# Altium schematic symbol library Schlib1.SchLib: 17 symbols
Pins are listed as number, name and electrical type; pins without a type are passive.

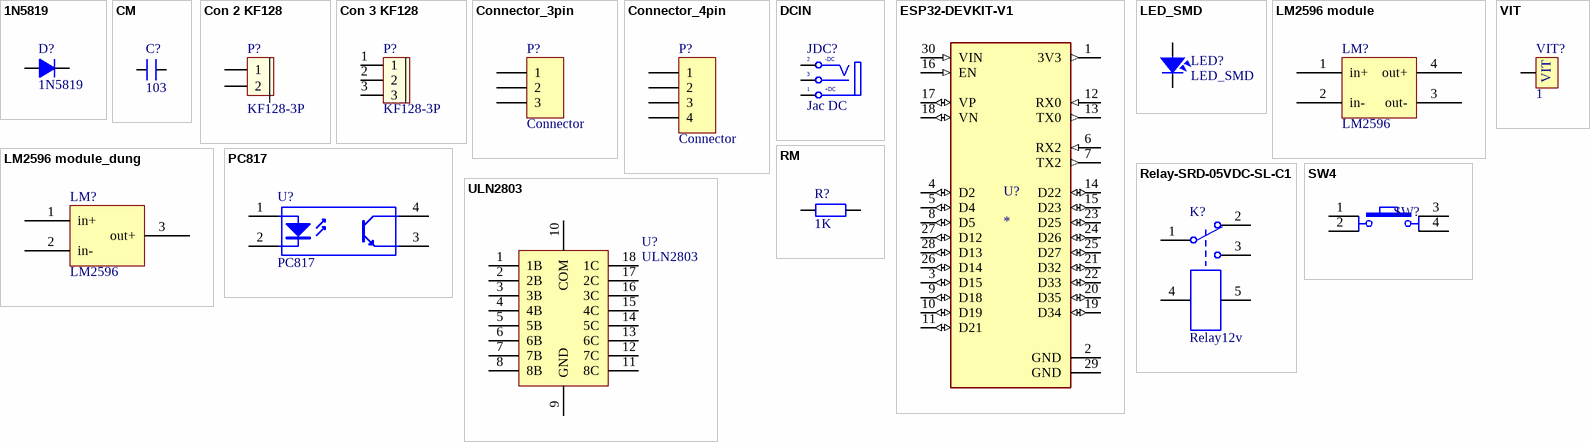
[diagram p0: symbols 1N5819 to VIT]

## 1N5819
designator D?
footprint diot_smd
pins: 1 A, 2 K

## CM
designator C?, comment 103
Cap SMD; Value: 103
footprint SM-0805 (Compoment SMD 80x50mil)
footprint SM-1206 (Compoment SMD 120x60mil)
pins: 1, 2

## Con 2 KF128
designator P?, comment KF128-3P
Cắm; Don_Vi: Con; So_Chan: 3; Ten_Linh_Kien: CON3 KF128-3P 5.08MM; Ma_Hang: MH000983; Chung_Loai: Cắm; Kieu_Chan: *
footprint con 2 kf128
pins: 1, 2

## Con 3 KF128
designator P?, comment KF128-3P
Cắm; Don_Vi: Con; So_Chan: 3; Ten_Linh_Kien: CON3 KF128-3P 5.08MM; Ma_Hang: MH000983; Chung_Loai: Cắm; Kieu_Chan: *
footprint con 3 kf128
pins: 1, 2, 3

## Connector_3pin
designator P?, comment Connector
footprint JST-XH_B3B-XH-A (JST; XH series; 3 circuit; 2.54 Pitch; Through-hole type; Top entry)
pins: 1, 2, 3

## Connector_4pin
designator P?, comment Connector
footprint JST-XH_B4B-XH-A (JST; XH series; 4 circuit; 2.54 Pitch; Through-hole type; Top entry)
pins: 1, 2, 3, 4

## DCIN
designator JDC?, comment Jac DC
Jac DC input; Value: Jac DC
footprint DC-IN (Jac DC input)
footprint DC-IN (Jac DC input)
pins: 1 T "Tip", 2 TN "Tip Normal (Break Contact)", 3 S (power) "Sleeve (Ground)"
text: -DC; +DC

## ESP32-DEVKIT-V1
designator U?
Dual core, Wi-Fi: 2.4 GHz up to 150 Mbits/s,BLE (Bluetooth Low Energy) and legacy Bluetooth, 32 bits, Up to 240 MHz; MP: ESP32-DEVKIT-V1; MF: Do it; Price: None; Availability: Not in stock; Package: None; Value: *; SnapEDA_Link: https://www.snapeda.com/parts/ESP32-DEVKIT-V1/Do+it/view-part/?ref=snap; Check_prices: https://www.snapeda.com/parts/ESP32-DEVKIT-V1/Do+it/view-part/?ref=eda
footprint MODULE_ESP32_DEVKIT_V1
pins: 1 3V3 (out), 2 GND (power), 3 D15 (io), 4 D2 (io), 5 D4 (io), 6 RX2 (in), 7 TX2 (out), 8 D5 (io), 9 D18 (io), 10 D19 (io), 11 D21 (io), 12 RX0 (in), 13 TX0 (out), 14 D22 (io), 15 D23 (io), 16 EN (in), 17 VP (io), 18 VN (io), 19 D34 (io), 20 D35 (io), 21 D32 (io), 22 D33 (io), 23 D25 (io), 24 D26 (io), 25 D27 (io), 26 D14 (io), 27 D12 (io), 28 D13 (io), 29 GND (power), 30 VIN (in)

## LED_SMD
designator LED?
footprint LED_0603
footprint SM-LED-GEEN 1206 (Compoment SMD 120x60mil)
footprint LED_SMD-0805 (Compoment SMD 80x50mil)
pins: 1, 2

## LM2596 module
designator LM?, comment LM2596
footprint module2596 (lm2596)
pins: 1 in+, 2 in-, 3 out-, 4 out+

## LM2596 module_dung
designator LM?, comment LM2596
footprint module2596_DUNG (lm2596)
pins: 1 in+, 2 in-, 3 out+

## PC817
designator U?
4-Pin Phototransistor Optocoupler; Published: 24-Mar-1999; LatestRevisionDate: 04-Mar-2005; LatestRevisionNote: Sch pins 3 & 4 Swapped.; DatasheetVersion: Nov-2003; PackageReference: DIP-4; Publisher: Altium Limited
footprint PhotoCoupler_SMD
pins: 1 A "Anode", 2 K "Cathode", 3 E "Emitter", 4 C "Collector"

## Relay-SRD-05VDC-SL-C1
designator K?, comment Relay12v
SRD-05VDC-SL-C1; Published: 24-Mar-1999; LatestRevisionDate: 17-Jul-2002; LatestRevisionNote: Re-released for DXP Platform.; PackageReference: DIP-P8; Publisher: Altium Limited
footprint RELAY-10A5pin
pins: 1 COM, 2 NC, 3 NO, 4, 5

## RM
designator R?, comment 1K
Resistor SMD; Value: 1K
footprint SM-1206 (Compoment SMD 120x60mil)
footprint SM-0805 (Compoment SMD 80x50mil)
footprint R0603
footprint R0805
pins: 1, 2

## SW4
designator SW?
Switch button 4 pin; Value: Button chip 4 pin
footprint SW4 (SW button 4pin, 250 x250 mil)
footprint SW4_SMD
pins: 1, 2, 3, 4

## ULN2803
designator U?
ULN2803A Darlington Transistor Arrays
footprint SO-18 (SOIC, 18-Leads, Body 9.9x3.9mm, Pitch 1.27mm, IPC Medium Density)
pins: 1 1B, 2 2B, 3 3B, 4 4B, 5 5B, 6 6B, 7 7B, 8 8B, 9 GND, 10 COM, 11 8C, 12 7C, 13 6C, 14 5C, 15 4C, 16 3C, 17 2C, 18 1C

## VIT
designator VIT?, comment 1
Oc Vit
footprint VIT
pins: VIT1 1